# Altium footprint library JYX-MA10.PcbLib: 1 footprints
Each footprint in its own frame and in the unit in brackets; x right, y up, seen from the top. Pads: shape width x height; smd on the part's side, far side on the other; paste and mask are expansions set on the pad; w line width, h text height; cw(c..) or ccw(c..) is an arc to the next point about the centre after c.
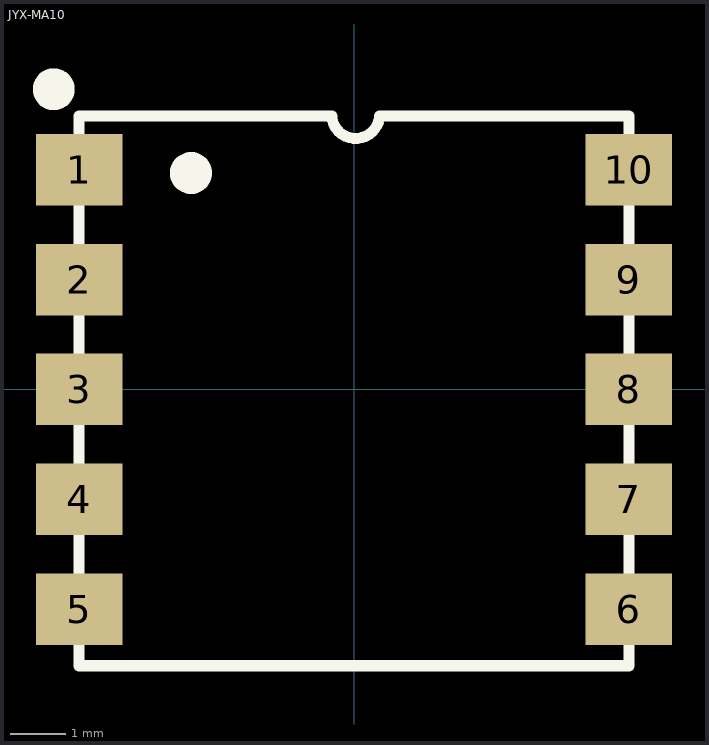
[diagram p0: the footprint, top view; thin cyan lines are the x and y axes]

## JYX-MA10 [mm]
pads (10):
  rect 1.575x1.3 smd: 1(-5,4) 2(-5,2) 3(-5,0) 4(-5,-2) 5(-5,-4) 6(5,-4) 7(5,-2) 8(5,0) 9(5,2) 10(5,4)
Top Overlay:
  circle w0.508: c-2.966,3.937 r0.127
  circle w0.508: c-5.461,5.461 r0.127
  lines w0.2: -0.405,4.964 ccw(c0.03,5.002) 0.463,4.953
  lines w0.203: -5,4.975 -5,-5.025 5,-5.025 5,4.975 ; -4.989,4.975 -0.405,4.975 ; 0.463,4.975 4.978,4.975